# Altium integrated library NeededParts.IntLib: 7 symbols
Pins are listed as number, name and electrical type; pins without a type are passive.

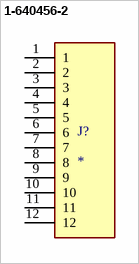
[diagram p0: symbol 1-640456-2]

## 1-640456-2
designator J?
MP: 1-640456-2; Package: None; Price: None; Value: *; Availability: Unavailable
footprint TE_1-640456-2
pins: 1, 2, 3, 4, 5, 6, 7, 8, 9, 10, 11, 12


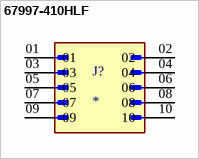
[diagram p1: symbol 67997-410HLF]

## 67997-410HLF
designator J?
BergStikÂ®, Board to Board connector, Unshrouded vertical header, Through Hole, Double Row, 10 Positions, 2.54 mm (0.100in) Pitch; MP: 67997-410HLF; MF: Amphenol ICC; Value: *; Package: None; SnapEDA_Link: https://www.snapeda.com/parts/67997-410HLF/Amphenol+FCI/view-part/?ref=snap; Check_prices: https://www.snapeda.com/parts/67997-410HLF/Amphenol+FCI/view-part/?ref=eda; Digi-Key_Part_Number: 609-3243-ND; Purchase-URL: https://pricing.snapeda.com/search/part/67997-410HLF/?ref=eda
footprint AMPHENOL_67997-410HLF
pins: 01, 02, 03, 04, 05, 06, 07, 08, 09, 10


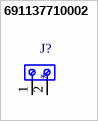
[diagram p2: symbol 691137710002]

## 691137710002
designator J?
2 Position Wire to Board Terminal Block Horizontal with Board 0.197 (5.00mm) Through Hole; MP: 691137710002; MF: WÃ¼rth Elektronik; Price: None; Check_prices: https://www.snapeda.com/parts/691137710002/W%C3%BCrth%20Elektronik/view-part/4793356/?ref=eda; SnapEDA_Link: https://www.snapeda.com/parts/691137710002/W%C3%BCrth%20Elektronik/view-part/4793356/?ref=snap; Package: None; Availability: Warning; Value: *; Purchase-URL: https://pricing.snapeda.com/search/part/691137710002/?ref=eda
footprint 691137710002
pins: 1, 2


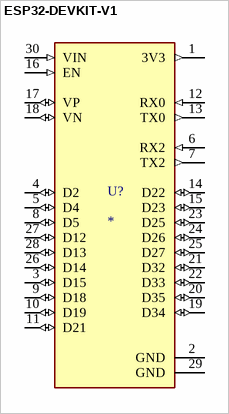
[diagram p3: symbol ESP32-DEVKIT-V1]

## ESP32-DEVKIT-V1
designator U?
Dual core, Wi-Fi: 2.4 GHz up to 150 Mbits/s,BLE (Bluetooth Low Energy) and legacy Bluetooth, 32 bits, Up to 240 MHz; MP: ESP32-DEVKIT-V1; MF: Do it; Price: None; Availability: Not in stock; Package: None; Value: *; SnapEDA_Link: https://www.snapeda.com/parts/ESP32-DEVKIT-V1/Do+it/view-part/?ref=snap; Check_prices: https://www.snapeda.com/parts/ESP32-DEVKIT-V1/Do+it/view-part/?ref=eda
footprint MODULE_ESP32_DEVKIT_V1
pins: 1 3V3 (out), 2 GND (power), 3 D15 (io), 4 D2 (io), 5 D4 (io), 6 RX2 (in), 7 TX2 (out), 8 D5 (io), 9 D18 (io), 10 D19 (io), 11 D21 (io), 12 RX0 (in), 13 TX0 (out), 14 D22 (io), 15 D23 (io), 16 EN (in), 17 VP (io), 18 VN (io), 19 D34 (io), 20 D35 (io), 21 D32 (io), 22 D33 (io), 23 D25 (io), 24 D26 (io), 25 D27 (io), 26 D14 (io), 27 D12 (io), 28 D13 (io), 29 GND (power), 30 VIN (in)


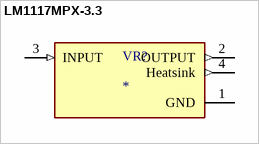
[diagram p4: symbol LM1117MPX-3.3]

## LM1117MPX-3.3
designator VR?
800-mA 15-V linear voltage regulator; MP: LM1117MPX-3.3; MF: Texas Instruments; Check_prices: https://www.snapeda.com/parts/LM1117MPX-3.3/Texas+Instruments/view-part/?ref=eda; Value: *; Availability: In Stock; Price: None; Package: SOT-223-4 Texas Instruments; SnapEDA_Link: https://www.snapeda.com/parts/LM1117MPX-3.3/Texas+Instruments/view-part/?ref=snap; Purchase-URL: https://pricing.snapeda.com/search/part/LM1117MPX-3.3/?ref=eda
footprint SOT230P700X185-4N
pins: 1 GND (power), 2 OUTPUT (out), 3 INPUT (in), 4 Heatsink (out)


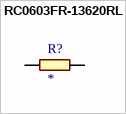
[diagram p5: symbol RC0603FR-13620RL]

## RC0603FR-13620RL
designator R?
https://octopart.com/rc0603fr-13100kl-yageo-12819546; MP: RC0603FR-13620RL; Package: None; Price: None; Value: *; Availability: Unavailable
footprint 0603
pins: 1, 2


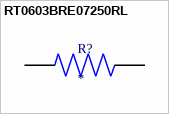
[diagram p6: symbol RT0603BRE07250RL]

## RT0603BRE07250RL
designator R?
250 Ohms Â±0.1% 0.1W, 1/10W Chip Resistor 0603 (1608 Metric) - Thin Film; MF: Yageo; MP: RT0603BRE07250RL; Value: *; SnapEDA_Link: https://www.snapeda.com/parts/RT0603BRE07250RL/Yageo/view-part/?ref=snap; Purchase-URL: https://pricing.snapeda.com/search/part/RT0603BRE07250RL/?ref=eda; Availability: In Stock; Price: None; Package: 1608 Yageo; Check_prices: https://www.snapeda.com/parts/RT0603BRE07250RL/Yageo/view-part/?ref=eda
footprint RESC1608X55N
pins: 1, 2